# EAGLE library part EC12E_SW (library SKAARHOJ)
ALPS rotary Encoder EC12E series with switch
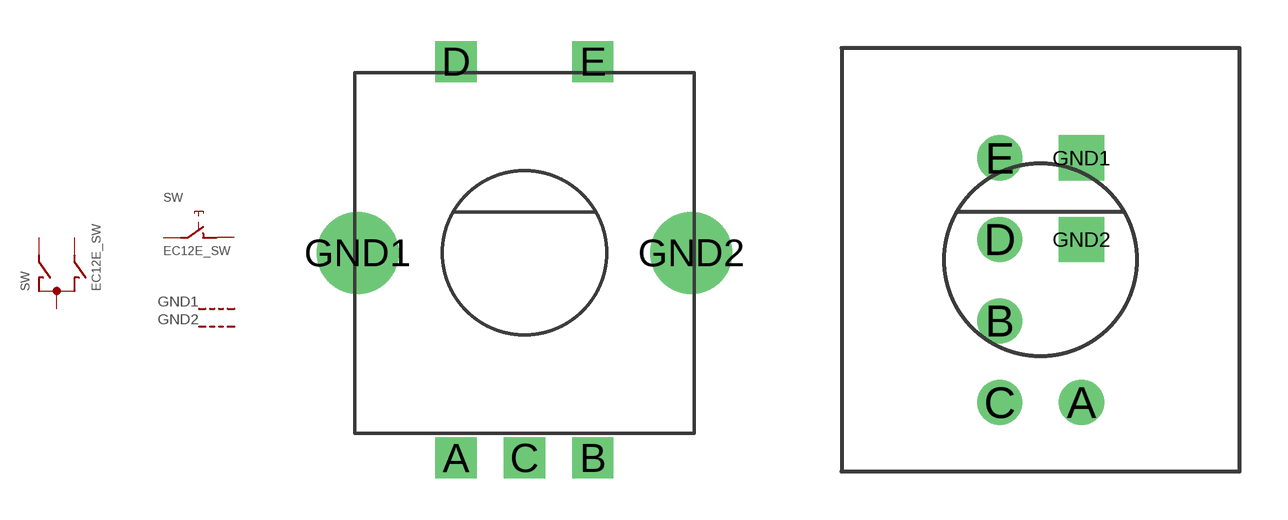
[diagram p71: symbol with the pads of ALPS_EC12E_SW; footprints ALPS_EC12E_SW, ALPS_EC12E_SW-CAR1]

Designator prefix SW; gates G$1=ENCODER G$2=TASTER G$3=GEHAEUSEANSCHLUSS G$4=GEHAEUSEANSCHLUSS

## EC12E_SW (MPN: EC12E2424407; OC_FARNELL: 1520813; OC_NEWARK: 74M1068)  [ALPS_EC12E_SW]
A  G$1:A  pas
B  G$1:B  pas
C  G$1:C  pas
D  G$2:1  pas
E  G$2:2  pas
GND1  G$3:G  pas
GND2  G$4:G  pas

## EC12E_SWCAR1  [ALPS_EC12E_SW-CAR1]
Pads as for ALPS_EC12E_SW

## Footprint ALPS_EC12E_SW (pad centres in mm)
ALPS rotary encoder EC12E series with push-on switch
drill 1 square: A -2.5,-7.5; B 2.5,-7.5; C 0,-7.5; D -2.5,7; E 2.5,7
drill 2: GND1 -6.1,0; GND2 6.1,0

## Footprint ALPS_EC12E_SW-CAR1 (pad centres in mm)
drill 0.9: A 1.27,-4.445; B -1.27,-1.905; C -1.27,-4.445; D -1.27,0.635; E -1.27,3.175
drill 0.9 square: GND1 1.27,3.175; GND2 1.27,0.635